# Altium integrated library SK56.IntLib: 1 symbol
Pins are listed as number, name and electrical type; pins without a type are passive.

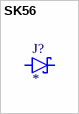
[diagram p0: symbol SK56]

## SK56
designator J?
Diode Schottky 60V 5A Surface Mount SMC (DO-214AB); MP: SK56; MF: Diotec Semiconductor; SnapEDA_Link: https://www.snapeda.com/parts/SK56/Diotec/view-part/5719358/?ref=snap; Package: DO-214AB-214 Diotec Semiconductor; Check_prices: https://www.snapeda.com/parts/SK56/Diotec/view-part/5719358/?ref=eda; Availability: In Stock; Price: None; Value: *
footprint SMC
pins: 1 A, 2 C